# Altium footprint library pcblib.PcbLib: 15 footprints
Each footprint in its own frame and in the unit in brackets; x right, y up, seen from the top. Pads: shape width x height; smd on the part's side, far side on the other; paste and mask are expansions set on the pad; w line width, h text height; cw(c..) or ccw(c..) is an arc to the next point about the centre after c.
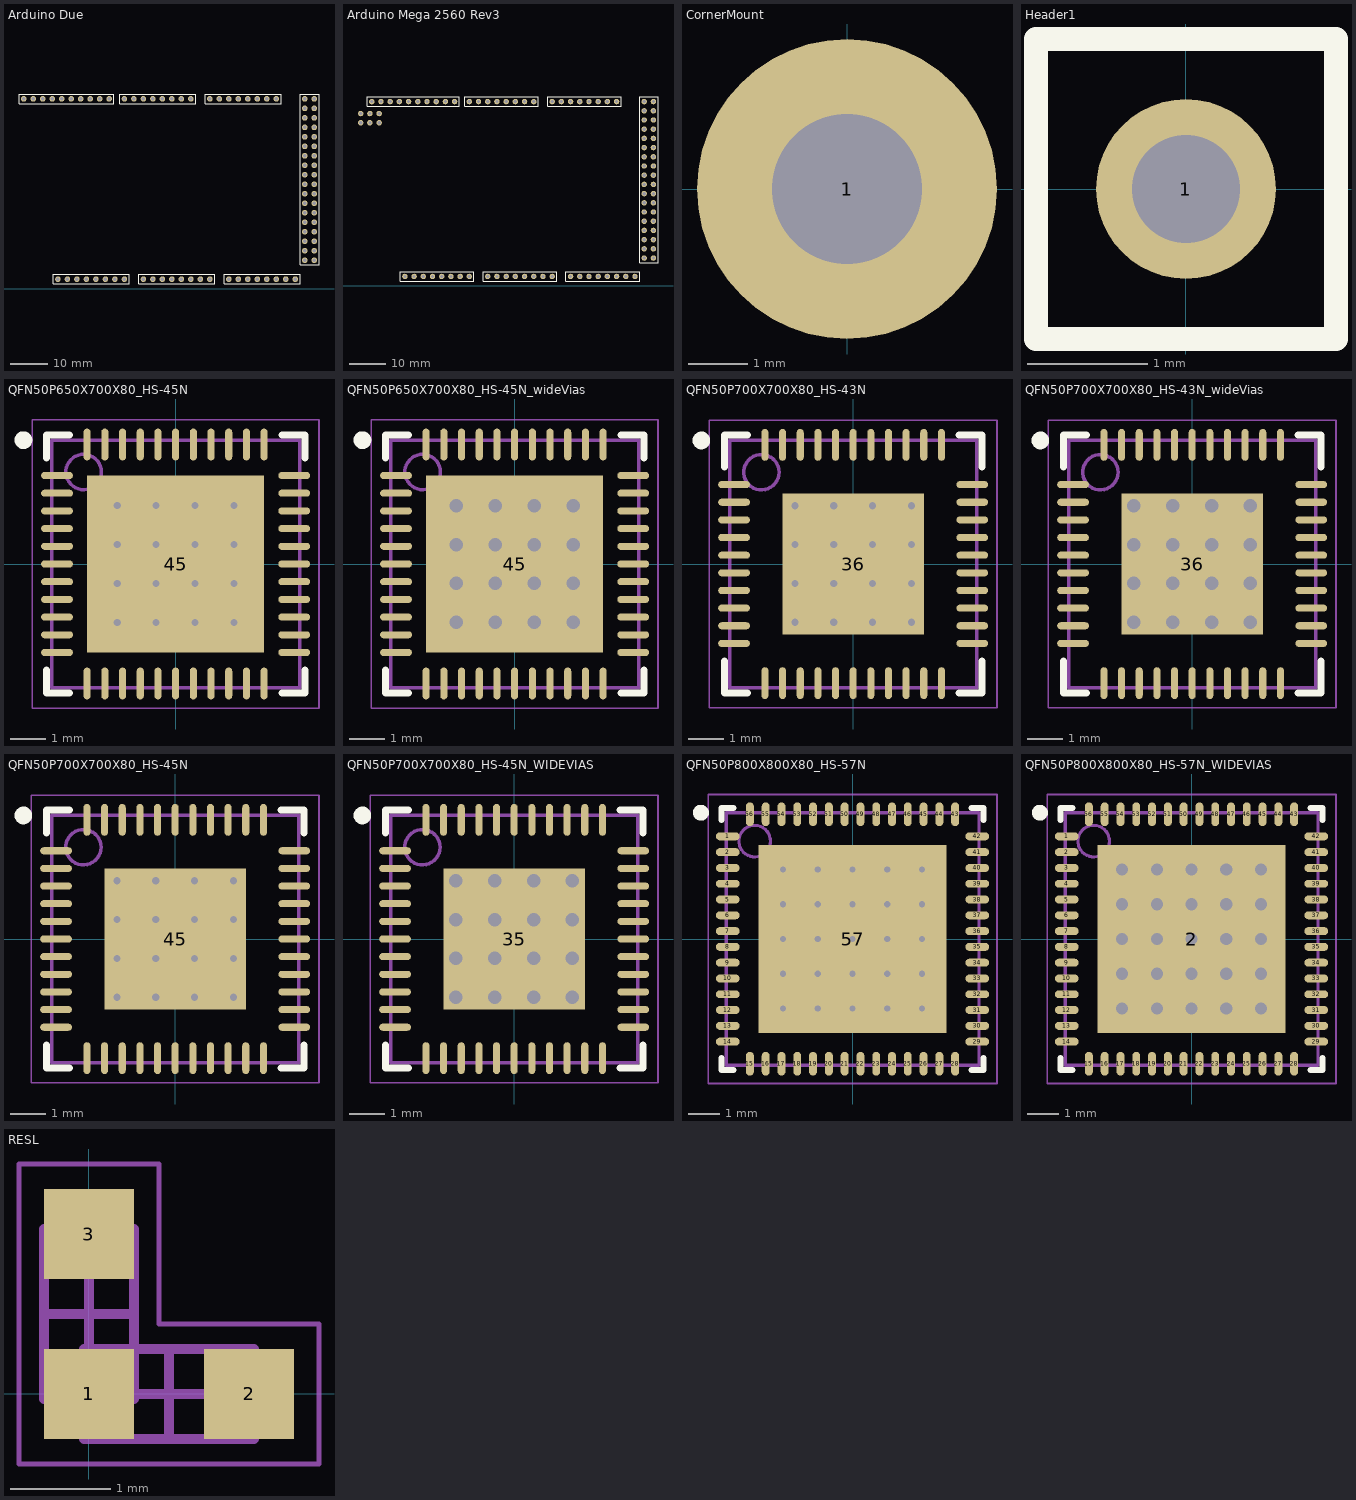
[diagram p0: the footprints below, top view; thin cyan lines are the x and y axes]

## Arduino Due [mm]
pads (86):
  round 1.5 hole 0.9: 0/RX0(63.5,50.8) 1/TX0(60.96,50.8) 2(58.42,50.8) 3(55.88,50.8) 4(53.34,50.8) 5(50.8,50.8) 6(48.26,50.8) 7(45.72,50.8) 8(41.656,50.8) 9(39.116,50.8) 10(36.576,50.8) 11(34.036,50.8) 12(31.496,50.8) 13(28.956,50.8) 14/TX3(68.58,50.8) 15/RX3(71.12,50.8) 16/TX2(73.66,50.8) 17/RX2(76.2,50.8) 18/TX1(78.74,50.8) 19/RX1(81.28,50.8) 20/SDA(21.336,50.8) 20/SDA(83.82,50.8) 21/SCL(18.796,50.8) 21/SCL(86.36,50.8) 22(93.98,48.26) 23(96.52,48.26) 24(93.98,45.72) 25(96.52,45.72) 26(93.98,43.18) 27(96.52,43.18) 28(93.98,40.64) 29(96.52,40.64) 30(93.98,38.1) 31(96.52,38.1) 32(93.98,35.56) 33(96.52,35.56) 34(93.98,33.02) 35(96.52,33.02) 36(93.98,30.48) 37(96.52,30.48) 38(93.98,27.94) 39(96.52,27.94) 40(93.98,25.4) 41(96.52,25.4) 42(93.98,22.86) 43(96.52,22.86) 44(93.98,20.32) 45(96.52,20.32) 46(93.98,17.78) 47(96.52,17.78) 48(93.98,15.24) 49(96.52,15.24) 50(93.98,12.7) 51(96.52,12.7) 52(93.98,10.16) 53(96.52,10.16) 54/A0/ADC0(50.8,2.54) 55/A1/ADC1(53.34,2.54) 56/A2/ADC2(55.88,2.54) 57/A3/ADC3(58.42,2.54) 58/A4/ADC4(60.96,2.54) 59/A5/ADC5(63.5,2.54) 60/A6/ADC6(66.04,2.54) 61/A7/ADC7(68.58,2.54) 62/A8/ADC8(73.66,2.54) 63/A9/ADC9(76.2,2.54) 64/A10/ADC10(78.74,2.54) 65/A11/ADC11(81.28,2.54) 66/DAC0(83.82,2.54) 67/DAC1(86.36,2.54) 68/CANRX(88.9,2.54) 69/CANTX(91.44,2.54) +3.3V(35.56,2.54) +5V(38.1,2.54) +5V(93.98,50.8) +5V(96.52,50.8) AREF(23.876,50.8) GND(26.416,50.8) GND(40.64,2.54) GND(43.18,2.54) GND(93.98,7.62) GND(96.52,7.62) IOREF(30.48,2.54) NC(27.94,2.54) RESET(33.02,2.54) VIN(45.72,2.54)
Top Overlay:
  lines w0.254: 17.526,49.53 42.926,49.53 42.926,52.07 17.526,52.07 17.526,49.53 ; 26.67,1.27 46.99,1.27 46.99,3.81 26.67,3.81 26.67,1.27 ; 44.45,49.53 64.77,49.53 64.77,52.07 44.45,52.07 44.45,49.53 ; 49.53,1.27 69.85,1.27 69.85,3.81 49.53,3.81 49.53,1.27 ; 67.31,49.53 87.63,49.53 87.63,52.07 67.31,52.07 67.31,49.53 ; 72.39,1.27 92.71,1.27 92.71,3.81 72.39,3.81 72.39,1.27 ; 92.71,6.36 92.71,52.08 97.79,52.08 97.79,6.36 92.71,6.36

## Arduino Mega 2560 Rev3 [mm]
pads (92):
  round 1.5 hole 0.9: 0/RX0(63.5,50.8) 1/TX0(60.96,50.8) 2(58.42,50.8) 3(55.88,50.8) 4(53.34,50.8) 5(50.8,50.8) 6(48.26,50.8) 7(45.72,50.8) 8(41.656,50.8) 9(39.116,50.8) 10(36.576,50.8) 11(34.036,50.8) 12(31.496,50.8) 13(28.956,50.8) 14/TX3(68.58,50.8) 15/RX3(71.12,50.8) 16/TX2(73.66,50.8) 17/RX2(76.2,50.8) 18/TX1(78.74,50.8) 19/RX1(81.28,50.8) 20(21.336,50.8) 20/SDA(83.82,50.8) 21(18.796,50.8) 21/SCL(86.36,50.8) 22/AD0(93.98,48.26) 23/AD1(96.52,48.26) 24/AD2(93.98,45.72) 25/AD3(96.52,45.72) 26/AD4(93.98,43.18) 27/AD5(96.52,43.18) 28/AD6(93.98,40.64) 29/AD7(96.52,40.64) 30/A15(93.98,38.1) 31/A14(96.52,38.1) 32/A13(93.98,35.56) 33/A12(96.52,35.56) 34/A11(93.98,33.02) 35/A10(96.52,33.02) 36/A9(93.98,30.48) 37/A8(96.52,30.48) 38(93.98,27.94) 39/ALE(96.52,27.94) 40/RD(93.98,25.4) 41/WR(96.52,25.4) 42(93.98,22.86) 43(96.52,22.86) 44(93.98,20.32) 45(96.52,20.32) 46(93.98,17.78) 47(96.52,17.78) 48(93.98,15.24) 49(96.52,15.24) 50/CIPO(93.98,12.7) 51/COPI(96.52,12.7) 52/SCK(93.98,10.16) 53/SS(96.52,10.16) 54/A0/ADC0(50.8,2.54) 55/A1/ADC1(53.34,2.54) 56/A2/ADC2(55.88,2.54) 57/A3/ADC3(58.42,2.54) 58/A4/ADC4(60.96,2.54) 59/A5/ADC5(63.5,2.54) 60/A6/ADC6(66.04,2.54) 61/A7/ADC7(68.58,2.54) 62/A8/ADC8(73.66,2.54) 63/A9/ADC9(76.2,2.54) 64/A10/ADC10(78.74,2.54) 65/A11/ADC11(81.28,2.54) 66/A12/ADC12(83.82,2.54) 67/A13/ADC13(86.36,2.54) 68/A14/ADC14(88.9,2.54) 69/A15/ADC15(91.44,2.54) +3.3V(35.56,2.54) +5V(38.1,2.54) +5V(93.98,50.8) +5V(96.52,50.8) AREF(23.876,50.8) GND(26.416,50.8) GND(40.64,2.54) GND(43.18,2.54) GND(93.98,7.62) GND(96.52,7.62) IOREF(30.48,2.54) NC(27.94,2.54) RESET(33.02,2.54) VIN(45.72,2.54) ""(15.748,44.958) ""(15.748,47.498) ""(18.288,44.958) ""(18.288,47.498) ""(20.828,44.958) ""(20.828,47.498)
Top Overlay:
  lines w0.254: 17.526,49.53 17.526,52.07 42.926,52.07 42.926,49.53 17.526,49.53 ; 26.67,1.27 26.67,3.81 46.99,3.81 46.99,1.27 26.67,1.27 ; 44.45,49.53 44.45,52.07 64.77,52.07 64.77,49.53 44.45,49.53 ; 49.53,1.27 49.53,3.81 69.85,3.81 69.85,1.27 49.53,1.27 ; 67.31,49.53 67.31,52.07 87.63,52.07 87.63,49.53 67.31,49.53 ; 72.39,1.27 72.39,3.81 92.71,3.81 92.71,1.27 72.39,1.27 ; 92.71,6.36 97.79,6.36 97.79,52.08 92.71,52.08 92.71,6.36

## CornerMount [mm] "Ideally grounded mounting hole for board corners. 150mil distance."
height 5.08
pads (1):
  round 5.08 hole 2.54: 1(0,0)

## Header1 [mm] "Single header connection"
height 2.5
pads (1):
  round 1.5 hole 0.9 mask+0.056: 1(0,0)
Top Overlay:
  lines w0.2: -1.25,-1.25 1.25,-1.25 1.25,1.25 -1.25,1.25 -1.25,-1.25

## PCBComponent_1 [mm]

## PCBComponent_1 - duplicate [mm]

## QFN50P650X700X80_HS-45N [mm] "QFN, 44-Leads, Body 6.50x7.00mm, Pitch 0.50mm, Thermal Pad 5.00x5.00mm, IPC Medium Density"
height 0.8
pads (45):
  oval 0.9x0.2 smd: 1(-3.35,2.5) 2(-3.35,2) 3(-3.35,1.5) 4(-3.35,1) 5(-3.35,0.5) 6(-3.35,0) 7(-3.35,-0.5) 8(-3.35,-1) 9(-3.35,-1.5) 10(-3.35,-2) 11(-3.35,-2.5) 23(3.35,-2.5) 24(3.35,-2) 25(3.35,-1.5) 26(3.35,-1) 27(3.35,-0.5) 28(3.35,0) 29(3.35,0.5) 30(3.35,1) 31(3.35,1.5) 32(3.35,2) 33(3.35,2.5)
  oval 0.2x0.9 smd: 12(-2.5,-3.375) 13(-2,-3.375) 14(-1.5,-3.375) 15(-1,-3.375) 16(-0.5,-3.375) 17(0,-3.375) 18(0.5,-3.375) 19(1,-3.375) 20(1.5,-3.375) 21(2,-3.375) 22(2.5,-3.375) 34(2.5,3.375) 35(2,3.375) 36(1.5,3.375) 37(1,3.375) 38(0.5,3.375) 39(0,3.375) 40(-0.5,3.375) 41(-1,3.375) 42(-1.5,3.375) 43(-2,3.375) 44(-2.5,3.375)
  rect 5x5 smd: 45(0,0)
via -1.65,1.65 diameter 0.5 hole 0.2
via -0.55,1.65 diameter 0.5 hole 0.2
via 0.55,1.65 diameter 0.5 hole 0.2
via 1.65,1.65 diameter 0.5 hole 0.2
via -1.65,0.55 diameter 0.5 hole 0.2
via -0.55,0.55 diameter 0.5 hole 0.2
via 0.55,0.55 diameter 0.5 hole 0.2
via 1.65,0.55 diameter 0.5 hole 0.2
via -1.65,-0.55 diameter 0.5 hole 0.2
via -0.55,-0.55 diameter 0.5 hole 0.2
via 0.55,-0.55 diameter 0.5 hole 0.2
via 1.65,-0.55 diameter 0.5 hole 0.2
via -1.65,-1.65 diameter 0.5 hole 0.2
via -0.55,-1.65 diameter 0.5 hole 0.2
via 0.55,-1.65 diameter 0.5 hole 0.2
via 1.65,-1.65 diameter 0.5 hole 0.2
Top Overlay:
  circle w0.25: c-4.3,3.5 r0.125
  lines w0.2: -3.65,-3 -3.65,-3.65 -3,-3.65 ; -3.65,3 -3.65,3.65 -3,3.65 ; 3,-3.65 3.65,-3.65 3.65,-3 ; 3,3.65 3.65,3.65 3.65,3
Mechanical 13:
  circle w0.1: c-2.6,2.6 r0.5
  lines w0.1: -3.5,-3.5 -3.5,3.5 3.5,3.5 3.5,-3.5 -3.5,-3.5
Mechanical 15:
  lines w0.05: -4.05,-4.075 -4.05,4.075 4.05,4.075 4.05,-4.075 -4.05,-4.075
  lines w0.1: -0.5,0 0.5,0 ; 0,-0.5 0,0.5
3D body: height 0.8, standoff 0.01, extent -3.5,-3.5 3.5,3.5

## QFN50P650X700X80_HS-45N_wideVias [mm] "QFN, 44-Leads, Body 6.50x7.00mm, Pitch 0.50mm, Thermal Pad 5.00x5.00mm, IPC Medium Density"
height 0.8
pads (45):
  oval 0.9x0.2 smd: 1(-3.35,2.5) 2(-3.35,2) 3(-3.35,1.5) 4(-3.35,1) 5(-3.35,0.5) 6(-3.35,0) 7(-3.35,-0.5) 8(-3.35,-1) 9(-3.35,-1.5) 10(-3.35,-2) 11(-3.35,-2.5) 23(3.35,-2.5) 24(3.35,-2) 25(3.35,-1.5) 26(3.35,-1) 27(3.35,-0.5) 28(3.35,0) 29(3.35,0.5) 30(3.35,1) 31(3.35,1.5) 32(3.35,2) 33(3.35,2.5)
  oval 0.2x0.9 smd: 12(-2.5,-3.375) 13(-2,-3.375) 14(-1.5,-3.375) 15(-1,-3.375) 16(-0.5,-3.375) 17(0,-3.375) 18(0.5,-3.375) 19(1,-3.375) 20(1.5,-3.375) 21(2,-3.375) 22(2.5,-3.375) 34(2.5,3.375) 35(2,3.375) 36(1.5,3.375) 37(1,3.375) 38(0.5,3.375) 39(0,3.375) 40(-0.5,3.375) 41(-1,3.375) 42(-1.5,3.375) 43(-2,3.375) 44(-2.5,3.375)
  rect 5x5 smd: 45(0,0)
via 1.65,-1.65 diameter 0.635 hole 0.381
via 0.55,-1.65 diameter 0.635 hole 0.381
via -0.55,-1.65 diameter 0.635 hole 0.381
via -1.65,-1.65 diameter 0.635 hole 0.381
via 1.65,-0.55 diameter 0.635 hole 0.381
via 0.55,-0.55 diameter 0.635 hole 0.381
via -1.65,-0.55 diameter 0.635 hole 0.381
via 1.65,0.55 diameter 0.635 hole 0.381
via 0.55,0.55 diameter 0.635 hole 0.381
via -0.55,0.55 diameter 0.635 hole 0.381
via -1.65,0.55 diameter 0.635 hole 0.381
via 1.65,1.65 diameter 0.635 hole 0.381
via 0.55,1.65 diameter 0.635 hole 0.381
via -0.55,1.65 diameter 0.635 hole 0.381
via -1.65,1.65 diameter 0.635 hole 0.381
via -0.55,-0.55 diameter 0.635 hole 0.381
Top Overlay:
  circle w0.25: c-4.3,3.5 r0.125
  lines w0.2: -3.65,-3 -3.65,-3.65 -3,-3.65 ; -3.65,3 -3.65,3.65 -3,3.65 ; 3,-3.65 3.65,-3.65 3.65,-3 ; 3,3.65 3.65,3.65 3.65,3
Mechanical 13:
  circle w0.1: c-2.6,2.6 r0.5
  lines w0.1: -3.5,-3.5 3.5,-3.5 3.5,3.5 -3.5,3.5 -3.5,-3.5
Mechanical 15:
  lines w0.05: -4.05,-4.075 4.05,-4.075 4.05,4.075 -4.05,4.075 -4.05,-4.075
  lines w0.1: -0.5,0 0.5,0 ; 0,-0.5 0,0.5
3D body: height 0.8, standoff 0.01, extent -3.5,-3.5 3.5,3.5

## QFN50P700X700X80_HS-43N [mm] "QFN, 42-Leads, Body 7.00x7.00mm, Pitch 0.50mm, Thermal Pad 4.00x4.00mm, IPC Medium Density"
height 0.8
pads (43):
  oval 0.9x0.2 smd: 1(-3.375,2.25) 2(-3.375,1.75) 3(-3.375,1.25) 4(-3.375,0.75) 5(-3.375,0.25) 6(-3.375,-0.25) 7(-3.375,-0.75) 8(-3.375,-1.25) 9(-3.375,-1.75) 10(-3.375,-2.25) 22(3.375,-2.25) 23(3.375,-1.75) 24(3.375,-1.25) 25(3.375,-0.75) 26(3.375,-0.25) 27(3.375,0.25) 28(3.375,0.75) 29(3.375,1.25) 30(3.375,1.75) 31(3.375,2.25)
  oval 0.2x0.9 smd: 11(-2.5,-3.375) 12(-2,-3.375) 13(-1.5,-3.375) 14(-1,-3.375) 15(-0.5,-3.375) 16(0,-3.375) 17(0.5,-3.375) 18(1,-3.375) 19(1.5,-3.375) 20(2,-3.375) 21(2.5,-3.375) 32(2.5,3.375) 33(2,3.375) 34(1.5,3.375) 35(1,3.375) 36(0.5,3.375) 37(0,3.375) 38(-0.5,3.375) 39(-1,3.375) 40(-1.5,3.375) 41(-2,3.375) 42(-2.5,3.375)
  rect 4x4 smd: 36(0,0)
via -1.65,1.65 diameter 0.5 hole 0.2
via -0.55,1.65 diameter 0.5 hole 0.2
via 0.55,1.65 diameter 0.5 hole 0.2
via 1.65,1.65 diameter 0.5 hole 0.2
via -1.65,0.55 diameter 0.5 hole 0.2
via -0.55,0.55 diameter 0.5 hole 0.2
via 0.55,0.55 diameter 0.5 hole 0.2
via 1.65,0.55 diameter 0.5 hole 0.2
via -1.65,-0.55 diameter 0.5 hole 0.2
via -0.55,-0.55 diameter 0.5 hole 0.2
via 0.55,-0.55 diameter 0.5 hole 0.2
via 1.65,-0.55 diameter 0.5 hole 0.2
via -1.65,-1.65 diameter 0.5 hole 0.2
via -0.55,-1.65 diameter 0.5 hole 0.2
via 0.55,-1.65 diameter 0.5 hole 0.2
via 1.65,-1.65 diameter 0.5 hole 0.2
Top Overlay:
  circle w0.25: c-4.3,3.5 r0.125
  lines w0.2: -3.65,-2.75 -3.65,-3.65 -3,-3.65 ; -3.65,2.75 -3.65,3.65 -3,3.65 ; 3,-3.65 3.65,-3.65 3.65,-2.75 ; 3,3.65 3.65,3.65 3.65,2.75
Mechanical 13:
  circle w0.1: c-2.6,2.6 r0.5
  lines w0.1: -3.5,-3.5 -3.5,3.5 3.5,3.5 3.5,-3.5 -3.5,-3.5
Mechanical 15:
  lines w0.05: -4.075,-4.075 -4.075,4.075 4.075,4.075 4.075,-4.075 -4.075,-4.075
  lines w0.1: -0.5,0 0.5,0 ; 0,-0.5 0,0.5
3D body: height 0.8, standoff 0.01, extent -3.5,-3.5 3.5,3.5

## QFN50P700X700X80_HS-43N_wideVias [mm] "QFN, 42-Leads, Body 7.00x7.00mm, Pitch 0.50mm, Thermal Pad 4.00x4.00mm, IPC Medium Density"
height 0.8
pads (43):
  oval 0.9x0.2 smd: 1(-3.375,2.25) 2(-3.375,1.75) 3(-3.375,1.25) 4(-3.375,0.75) 5(-3.375,0.25) 6(-3.375,-0.25) 7(-3.375,-0.75) 8(-3.375,-1.25) 9(-3.375,-1.75) 10(-3.375,-2.25) 22(3.375,-2.25) 23(3.375,-1.75) 24(3.375,-1.25) 25(3.375,-0.75) 26(3.375,-0.25) 27(3.375,0.25) 28(3.375,0.75) 29(3.375,1.25) 30(3.375,1.75) 31(3.375,2.25)
  oval 0.2x0.9 smd: 11(-2.5,-3.375) 12(-2,-3.375) 13(-1.5,-3.375) 14(-1,-3.375) 15(-0.5,-3.375) 16(0,-3.375) 17(0.5,-3.375) 18(1,-3.375) 19(1.5,-3.375) 20(2,-3.375) 21(2.5,-3.375) 32(2.5,3.375) 33(2,3.375) 34(1.5,3.375) 35(1,3.375) 36(0.5,3.375) 37(0,3.375) 38(-0.5,3.375) 39(-1,3.375) 40(-1.5,3.375) 41(-2,3.375) 42(-2.5,3.375)
  rect 4x4 smd: 36(0,0)
via 1.65,-1.65 diameter 0.635 hole 0.381
via 0.55,-1.65 diameter 0.635 hole 0.381
via -0.55,-1.65 diameter 0.635 hole 0.381
via -1.65,-1.65 diameter 0.635 hole 0.381
via 1.65,-0.55 diameter 0.635 hole 0.381
via 0.55,-0.55 diameter 0.635 hole 0.381
via -0.55,-0.55 diameter 0.635 hole 0.381
via -1.65,-0.55 diameter 0.635 hole 0.381
via 1.65,0.55 diameter 0.635 hole 0.381
via 0.55,0.55 diameter 0.635 hole 0.381
via -0.55,0.55 diameter 0.635 hole 0.381
via -1.65,0.55 diameter 0.635 hole 0.381
via 1.65,1.65 diameter 0.635 hole 0.381
via 0.55,1.65 diameter 0.635 hole 0.381
via -0.55,1.65 diameter 0.635 hole 0.381
via -1.65,1.65 diameter 0.635 hole 0.381
Top Overlay:
  circle w0.25: c-4.3,3.5 r0.125
  lines w0.2: -3.65,-2.75 -3.65,-3.65 -3,-3.65 ; -3.65,2.75 -3.65,3.65 -3,3.65 ; 3,-3.65 3.65,-3.65 3.65,-2.75 ; 3,3.65 3.65,3.65 3.65,2.75
Mechanical 13:
  circle w0.1: c-2.6,2.6 r0.5
  lines w0.1: -3.5,-3.5 3.5,-3.5 3.5,3.5 -3.5,3.5 -3.5,-3.5
Mechanical 15:
  lines w0.05: -4.075,-4.075 4.075,-4.075 4.075,4.075 -4.075,4.075 -4.075,-4.075
  lines w0.1: -0.5,0 0.5,0 ; 0,-0.5 0,0.5
3D body: height 0.8, standoff 0.01, extent -3.5,-3.3 3.5,3.7

## QFN50P700X700X80_HS-45N [mm] "QFN, 44-Leads, Body 7.00x7.00mm, Pitch 0.50mm, Thermal Pad 4.00x4.00mm, IPC Medium Density"
height 0.8
pads (45):
  oval 0.9x0.2 smd: 1(-3.375,2.5) 2(-3.375,2) 3(-3.375,1.5) 4(-3.375,1) 5(-3.375,0.5) 6(-3.375,0) 7(-3.375,-0.5) 8(-3.375,-1) 9(-3.375,-1.5) 10(-3.375,-2) 11(-3.375,-2.5) 23(3.375,-2.5) 24(3.375,-2) 25(3.375,-1.5) 26(3.375,-1) 27(3.375,-0.5) 28(3.375,0) 29(3.375,0.5) 30(3.375,1) 31(3.375,1.5) 32(3.375,2) 33(3.375,2.5)
  oval 0.2x0.9 smd: 12(-2.5,-3.375) 13(-2,-3.375) 14(-1.5,-3.375) 15(-1,-3.375) 16(-0.5,-3.375) 17(0,-3.375) 18(0.5,-3.375) 19(1,-3.375) 20(1.5,-3.375) 21(2,-3.375) 22(2.5,-3.375) 34(2.5,3.375) 35(2,3.375) 36(1.5,3.375) 37(1,3.375) 38(0.5,3.375) 39(0,3.375) 40(-0.5,3.375) 41(-1,3.375) 42(-1.5,3.375) 43(-2,3.375) 44(-2.5,3.375)
  rect 4x4 smd: 45(0,0)
via -1.65,1.65 diameter 0.5 hole 0.2
via -0.55,1.65 diameter 0.5 hole 0.2
via 0.55,1.65 diameter 0.5 hole 0.2
via 1.65,1.65 diameter 0.5 hole 0.2
via -1.65,0.55 diameter 0.5 hole 0.2
via -0.55,0.55 diameter 0.5 hole 0.2
via 0.55,0.55 diameter 0.5 hole 0.2
via 1.65,0.55 diameter 0.5 hole 0.2
via -1.65,-0.55 diameter 0.5 hole 0.2
via -0.55,-0.55 diameter 0.5 hole 0.2
via 0.55,-0.55 diameter 0.5 hole 0.2
via 1.65,-0.55 diameter 0.5 hole 0.2
via -1.65,-1.65 diameter 0.5 hole 0.2
via -0.55,-1.65 diameter 0.5 hole 0.2
via 0.55,-1.65 diameter 0.5 hole 0.2
via 1.65,-1.65 diameter 0.5 hole 0.2
Top Overlay:
  circle w0.25: c-4.3,3.5 r0.125
  lines w0.2: -3.65,-3 -3.65,-3.65 -3,-3.65 ; -3.65,3 -3.65,3.65 -3,3.65 ; 3,-3.65 3.65,-3.65 3.65,-3 ; 3,3.65 3.65,3.65 3.65,3
Mechanical 13:
  circle w0.1: c-2.6,2.6 r0.5
  lines w0.1: -3.5,-3.5 -3.5,3.5 3.5,3.5 3.5,-3.5 -3.5,-3.5
Mechanical 15:
  lines w0.05: -4.075,-4.075 -4.075,4.075 4.075,4.075 4.075,-4.075 -4.075,-4.075
  lines w0.1: -0.5,0 0.5,0 ; 0,-0.5 0,0.5
3D body: height 0.8, standoff 0.01, extent -3.5,-3.5 3.5,3.5

## QFN50P700X700X80_HS-45N_WIDEVIAS [mm] "QFN, 44-Leads, Body 7.00x7.00mm, Pitch 0.50mm, Thermal Pad 4.00x4.00mm, IPC Medium Density"
height 0.8
pads (45):
  oval 0.9x0.2 smd: 1(-3.375,2.5) 2(-3.375,2) 3(-3.375,1.5) 4(-3.375,1) 5(-3.375,0.5) 6(-3.375,0) 7(-3.375,-0.5) 8(-3.375,-1) 9(-3.375,-1.5) 10(-3.375,-2) 11(-3.375,-2.5) 23(3.375,-2.5) 24(3.375,-2) 25(3.375,-1.5) 26(3.375,-1) 27(3.375,-0.5) 28(3.375,0) 29(3.375,0.5) 30(3.375,1) 31(3.375,1.5) 32(3.375,2) 33(3.375,2.5)
  oval 0.2x0.9 smd: 12(-2.5,-3.375) 13(-2,-3.375) 14(-1.5,-3.375) 15(-1,-3.375) 16(-0.5,-3.375) 17(0,-3.375) 18(0.5,-3.375) 19(1,-3.375) 20(1.5,-3.375) 21(2,-3.375) 22(2.5,-3.375) 34(2.5,3.375) 35(2,3.375) 36(1.5,3.375) 37(1,3.375) 38(0.5,3.375) 39(0,3.375) 40(-0.5,3.375) 41(-1,3.375) 42(-1.5,3.375) 43(-2,3.375) 44(-2.5,3.375)
  rect 4x4 smd: 35(0,0)
via -1.65,1.65 diameter 0.635 hole 0.381
via -0.55,1.65 diameter 0.635 hole 0.381
via 0.55,1.65 diameter 0.635 hole 0.381
via 1.65,1.65 diameter 0.635 hole 0.381
via -1.65,0.55 diameter 0.635 hole 0.381
via -0.55,0.55 diameter 0.635 hole 0.381
via 0.55,0.55 diameter 0.635 hole 0.381
via 1.65,0.55 diameter 0.635 hole 0.381
via -1.65,-0.55 diameter 0.635 hole 0.381
via -0.55,-0.55 diameter 0.635 hole 0.381
via 0.55,-0.55 diameter 0.635 hole 0.381
via 1.65,-0.55 diameter 0.635 hole 0.381
via -1.65,-1.65 diameter 0.635 hole 0.381
via -0.55,-1.65 diameter 0.635 hole 0.381
via 0.55,-1.65 diameter 0.635 hole 0.381
via 1.65,-1.65 diameter 0.635 hole 0.381
Top Overlay:
  circle w0.25: c-4.3,3.5 r0.125
  lines w0.2: -3.65,-3 -3.65,-3.65 -3,-3.65 ; -3.65,3 -3.65,3.65 -3,3.65 ; 3,-3.65 3.65,-3.65 3.65,-3 ; 3,3.65 3.65,3.65 3.65,3
Mechanical 13:
  circle w0.1: c-2.6,2.6 r0.5
  lines w0.1: -3.5,-3.5 -3.5,3.5 3.5,3.5 3.5,-3.5 -3.5,-3.5
Mechanical 15:
  lines w0.05: -4.075,-4.075 -4.075,4.075 4.075,4.075 4.075,-4.075 -4.075,-4.075
  lines w0.1: -0.5,0 0.5,0 ; 0,-0.5 0,0.5
3D body: height 0.8, standoff 0.01, extent -3.5,-3.5 3.5,3.5

## QFN50P800X800X80_HS-57N [mm] "QFN, 56-Leads, Body 8.00x8.00mm, Pitch 0.50mm, Thermal Pad 5.94x5.94mm, IPC Medium Density"
height 0.8
pads (57):
  oval 0.75x0.25 smd: 1(-3.95,3.25) 2(-3.95,2.75) 3(-3.95,2.25) 4(-3.95,1.75) 5(-3.95,1.25) 6(-3.95,0.75) 7(-3.95,0.25) 8(-3.95,-0.25) 9(-3.95,-0.75) 10(-3.95,-1.25) 11(-3.95,-1.75) 12(-3.95,-2.25) 13(-3.95,-2.75) 14(-3.95,-3.25) 29(3.95,-3.25) 30(3.95,-2.75) 31(3.95,-2.25) 32(3.95,-1.75) 33(3.95,-1.25) 34(3.95,-0.75) 35(3.95,-0.25) 36(3.95,0.25) 37(3.95,0.75) 38(3.95,1.25) 39(3.95,1.75) 40(3.95,2.25) 41(3.95,2.75) 42(3.95,3.25)
  oval 0.25x0.75 smd: 15(-3.25,-3.95) 16(-2.75,-3.95) 17(-2.25,-3.95) 18(-1.75,-3.95) 19(-1.25,-3.95) 20(-0.75,-3.95) 21(-0.25,-3.95) 22(0.25,-3.95) 23(0.75,-3.95) 24(1.25,-3.95) 25(1.75,-3.95) 26(2.25,-3.95) 27(2.75,-3.95) 28(3.25,-3.95) 43(3.25,3.95) 44(2.75,3.95) 45(2.25,3.95) 46(1.75,3.95) 47(1.25,3.95) 48(0.75,3.95) 49(0.25,3.95) 50(-0.25,3.95) 51(-0.75,3.95) 52(-1.25,3.95) 53(-1.75,3.95) 54(-2.25,3.95) 55(-2.75,3.95) 56(-3.25,3.95)
  rect 5.94x5.94 smd: 57(0,0)
via -2.2,2.2 diameter 0.5 hole 0.2
via -1.1,2.2 diameter 0.5 hole 0.2
via 0,2.2 diameter 0.5 hole 0.2
via 1.1,2.2 diameter 0.5 hole 0.2
via 2.2,2.2 diameter 0.5 hole 0.2
via -2.2,1.1 diameter 0.5 hole 0.2
via -1.1,1.1 diameter 0.5 hole 0.2
via 0,1.1 diameter 0.5 hole 0.2
via 1.1,1.1 diameter 0.5 hole 0.2
via 2.2,1.1 diameter 0.5 hole 0.2
via -2.2,0 diameter 0.5 hole 0.2
via -1.1,0 diameter 0.5 hole 0.2
via 0,0 diameter 0.5 hole 0.2
via 1.1,0 diameter 0.5 hole 0.2
via 2.2,0 diameter 0.5 hole 0.2
via -2.2,-1.1 diameter 0.5 hole 0.2
via -1.1,-1.1 diameter 0.5 hole 0.2
via 0,-1.1 diameter 0.5 hole 0.2
via 1.1,-1.1 diameter 0.5 hole 0.2
via 2.2,-1.1 diameter 0.5 hole 0.2
via -2.2,-2.2 diameter 0.5 hole 0.2
via -1.1,-2.2 diameter 0.5 hole 0.2
via 0,-2.2 diameter 0.5 hole 0.2
via 1.1,-2.2 diameter 0.5 hole 0.2
via 2.2,-2.2 diameter 0.5 hole 0.2
Top Overlay:
  circle w0.25: c-4.8,4 r0.125
  lines w0.2: -4.15,-3.775 -4.15,-4.15 -3.775,-4.15 ; -4.15,3.775 -4.15,4.15 -3.775,4.15 ; 3.775,-4.15 4.15,-4.15 4.15,-3.775 ; 3.775,4.15 4.15,4.15 4.15,3.775
Mechanical 13:
  circle w0.1: c-3.1,3.1 r0.5
  lines w0.1: -4,-4 -4,4 4,4 4,-4 -4,-4
Mechanical 15:
  lines w0.05: -4.575,-4.575 -4.575,4.575 4.575,4.575 4.575,-4.575 -4.575,-4.575
  lines w0.1: -0.5,0 0.5,0 ; 0,-0.5 0,0.5
3D body: height 0.8, standoff 0.01, extent -4,-4 4,4

## QFN50P800X800X80_HS-57N_WIDEVIAS [mm] "QFN, 56-Leads, Body 8.00x8.00mm, Pitch 0.50mm, Thermal Pad 5.94x5.94mm, IPC Medium Density"
height 0.8
pads (57):
  oval 0.75x0.25 smd: 1(-3.95,3.25) 2(-3.95,2.75) 3(-3.95,2.25) 4(-3.95,1.75) 5(-3.95,1.25) 6(-3.95,0.75) 7(-3.95,0.25) 8(-3.95,-0.25) 9(-3.95,-0.75) 10(-3.95,-1.25) 11(-3.95,-1.75) 12(-3.95,-2.25) 13(-3.95,-2.75) 14(-3.95,-3.25) 29(3.95,-3.25) 30(3.95,-2.75) 31(3.95,-2.25) 32(3.95,-1.75) 33(3.95,-1.25) 34(3.95,-0.75) 35(3.95,-0.25) 36(3.95,0.25) 37(3.95,0.75) 38(3.95,1.25) 39(3.95,1.75) 40(3.95,2.25) 41(3.95,2.75) 42(3.95,3.25)
  rect 5.94x5.94 smd: 2(0,0)
  oval 0.25x0.75 smd: 15(-3.25,-3.95) 16(-2.75,-3.95) 17(-2.25,-3.95) 18(-1.75,-3.95) 19(-1.25,-3.95) 20(-0.75,-3.95) 21(-0.25,-3.95) 22(0.25,-3.95) 23(0.75,-3.95) 24(1.25,-3.95) 25(1.75,-3.95) 26(2.25,-3.95) 27(2.75,-3.95) 28(3.25,-3.95) 43(3.25,3.95) 44(2.75,3.95) 45(2.25,3.95) 46(1.75,3.95) 47(1.25,3.95) 48(0.75,3.95) 49(0.25,3.95) 50(-0.25,3.95) 51(-0.75,3.95) 52(-1.25,3.95) 53(-1.75,3.95) 54(-2.25,3.95) 55(-2.75,3.95) 56(-3.25,3.95)
via -2.2,2.2 diameter 0.635 hole 0.381
via -1.1,2.2 diameter 0.635 hole 0.381
via 0,2.2 diameter 0.635 hole 0.381
via 1.1,2.2 diameter 0.635 hole 0.381
via 2.2,2.2 diameter 0.635 hole 0.381
via -2.2,1.1 diameter 0.635 hole 0.381
via -1.1,1.1 diameter 0.635 hole 0.381
via 0,1.1 diameter 0.635 hole 0.381
via 1.1,1.1 diameter 0.635 hole 0.381
via 2.2,1.1 diameter 0.635 hole 0.381
via -2.2,0 diameter 0.635 hole 0.381
via -1.1,0 diameter 0.635 hole 0.381
via 0,0 diameter 0.635 hole 0.381
via 1.1,0 diameter 0.635 hole 0.381
via 2.2,0 diameter 0.635 hole 0.381
via -2.2,-1.1 diameter 0.635 hole 0.381
via -1.1,-1.1 diameter 0.635 hole 0.381
via 0,-1.1 diameter 0.635 hole 0.381
via 1.1,-1.1 diameter 0.635 hole 0.381
via 2.2,-1.1 diameter 0.635 hole 0.381
via -2.2,-2.2 diameter 0.635 hole 0.381
via -1.1,-2.2 diameter 0.635 hole 0.381
via 0,-2.2 diameter 0.635 hole 0.381
via 1.1,-2.2 diameter 0.635 hole 0.381
via 2.2,-2.2 diameter 0.635 hole 0.381
Top Overlay:
  circle w0.25: c-4.8,4 r0.125
  lines w0.2: -4.15,-3.775 -4.15,-4.15 -3.775,-4.15 ; -4.15,3.775 -4.15,4.15 -3.775,4.15 ; 3.775,-4.15 4.15,-4.15 4.15,-3.775 ; 3.775,4.15 4.15,4.15 4.15,3.775
Mechanical 13:
  circle w0.1: c-3.1,3.1 r0.5
  lines w0.1: -4,-4 -4,4 4,4 4,-4 -4,-4
Mechanical 15:
  lines w0.05: -4.575,-4.575 -4.575,4.575 4.575,4.575 4.575,-4.575 -4.575,-4.575
  lines w0.1: -0.5,0 0.5,0 ; 0,-0.5 0,0.5
3D body: height 0.8, standoff 0.01, extent -4,-4 4,4

## RESL [mm] "Chip Resistor, 2-Leads, Body 1.70x0.90mm, IPC Medium Density"
height 0.55
pads (3):
  rect 0.9x0.9 smd: 1(0,0) 2(1.6,0) 3(0,1.6)
Mechanical 13:
  lines w0.1: -0.45,-0.05 -0.45,1.65 0.45,1.65 0.45,-0.05 -0.45,-0.05 ; -0.05,-0.45 1.65,-0.45 1.65,0.45 -0.05,0.45 -0.05,-0.45
Mechanical 15:
  lines w0.05: -0.7,-0.7 2.3,-0.7 2.3,0.7 0.7,0.7 0.7,2.3 -0.7,2.3 -0.7,-0.7
  lines w0.1: -0.45,0.8 0.45,0.8 ; 0,0.35 0,1.25 ; 0.35,0 1.25,0 ; 0.8,-0.45 0.8,0.45
3D body: height 0.55, standoff 0, extent 1.4,-0.45 1.65,0.45
3D body: height 0.55, standoff 0, extent -0.05,-0.45 0.2,0.45
3D body: height 0.55, standoff 0, extent 0.2,-0.45 1.4,0.45
3D body: height 0.55, standoff 0, extent -0.45,1.4 0.45,1.65
3D body: height 0.55, standoff 0, extent -0.45,-0.05 0.45,0.2
3D body: height 0.55, standoff 0, extent -0.45,0.2 0.45,1.4